# EAGLE library part 105133-0001 (library maincomputer parts)
Conn Micro USB Type B RCP 5 POS 0.65mm Solder RA SMD 5 Terminal 1 Port Embossed T/R
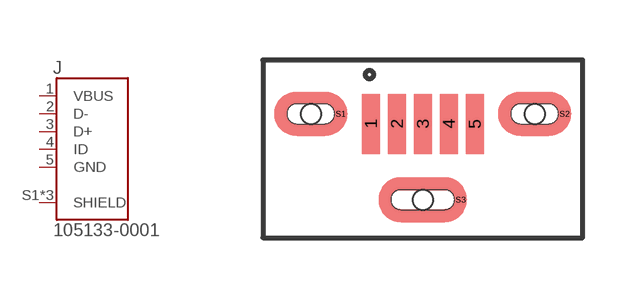
[diagram p3: symbol with the pads of MOLEX_105133-0001; footprint MOLEX_105133-0001]

Designator prefix J

## 105133-0001 (DESCRIPTION: USB - micro B USB 2.0 Receptacle Connector 5 Position Surface Mount; DIGI-KEY_PART_NUMBER: WM9734CT-ND; DIGIKEY-PURCHASE-URL: https://snapeda.com/shop?store=DigiKey&id=423273; MF: Molex; MP: 1051330001; P: 85; PACKAGE: None)  [MOLEX_105133-0001]
1  VBUS  pwr
2  D-
3  D+
4  ID  in
5  GND  pwr
S1  SHIELD  pas
S2  SHIELD  pas
S3  SHIELD  pas

## Footprint MOLEX_105133-0001 (pad centres in mm)
smd 0.45 x 1.5: 1 -1.3,-0.25; 2 -0.65,-0.25; 3 0,-0.25; 4 0.65,-0.25; 5 1.3,-0.25
smd 0.1 x 0.1: S1 -2.05,0; S2 3.55,0; S3 0.95,-2.15
hole 0.5 at -2.8,0
hole 0.5 at 2.8,0
hole 0.5 at 0,-2.15